# Altium footprint library 102-SOD.PcbLib: 3 footprints
Each footprint in its own frame and in the unit in brackets; x right, y up, seen from the top. Pads: shape width x height; smd on the part's side, far side on the other; paste and mask are expansions set on the pad; w line width, h text height; cw(c..) or ccw(c..) is an arc to the next point about the centre after c.
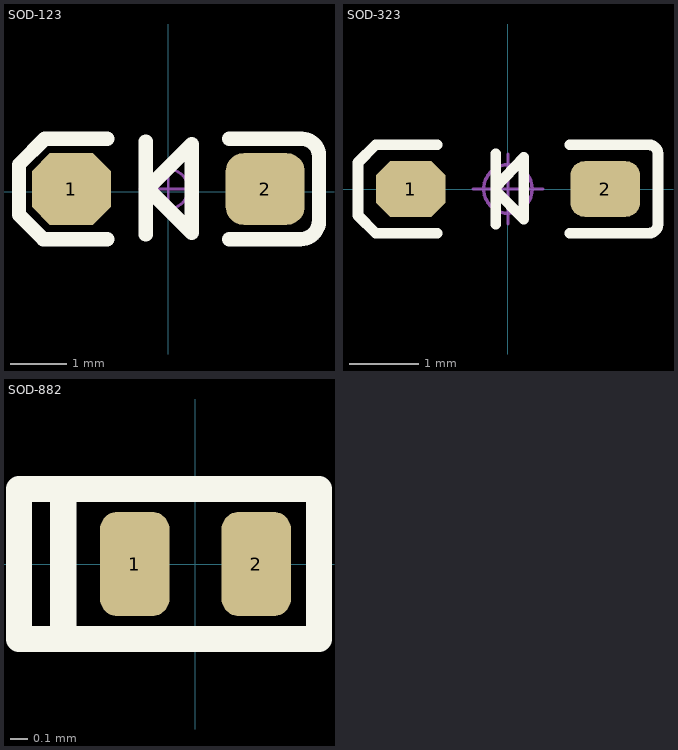
[diagram p0: the footprints below, top view; thin cyan lines are the x and y axes]

## SOD-123 [mil] "SOD-123/3.65mmx1.55mmx1.05mm"
height 41.34
pads (2):
  oct 55x50 smd: 1(-67.5,2)
  rrect50% 55x50 smd: 2(67.5,2)
Top Overlay:
  lines w10: -42.5,-33 -87,-33 -104,-16 -104,19 -86,37 -42.5,37 ; -15.6,-29.7 -15.6,35.1 ; -15.6,3.5 16.4,-28.5 16.4,33.2 -14,2.8 ; 42.5,-33 92,-33 ccw(c92,-20) 105,-20 105,25 ccw(c93,25) 93,37 42.5,37
Mechanical 15:
  circle w1.97: c0,2 r13.78
  lines w1.97: -19.68,2 19.68,2 ; 0,-17.68 0,21.68
3D body "SOD-123.step": height 50, standoff 1.97, extent -72.83,-29.49 72.84,33.5

## SOD-323 [mm] "SOD-323/1.8mmx1.3mmX0.9mm"
height 0.9
pads (2):
  oct 1x0.8 smd: 1(-1.4,0)
  rrect50% 1x0.8 smd: 2(1.4,0)
Top Overlay:
  lines w0.152: -1.016,-0.635 -1.905,-0.635 -2.159,-0.381 -2.159,0.381 -1.905,0.635 -1.016,0.635 ; -0.178,-0.508 -0.178,0.508 ; -0.178,-0.025 0.229,-0.432 0.229,0.457 -0.178,0.025 ; 0.889,-0.635 2.032,-0.635 ccw(c2.032,-0.508) 2.159,-0.508 2.159,0.508 ccw(c2.032,0.508) 2.032,0.635 0.889,0.635
Mechanical 15:
  circle w0.05: c0,0 r0.35
  lines w0.05: -0.5,0 0.5,0 ; 0,-0.5 0,0.5
3D body "SOD-323.step": height 1.2, standoff 0, extent -1.231,-0.65 1.281,0.65

## SOD-882 [mm]
height 0.5
pads (2):
  rrect50% 0.4x0.6 smd: 1(-0.35,0) 2(0.35,0)
Top Overlay:
  lines w0.152: -0.762,-0.381 -0.762,0.381 ; -1.016,-0.432 0.711,-0.432 0.711,0.432 -1.016,0.432 -1.016,-0.432
3D body "SOD-882.step": height 0.52, standoff 0, extent -0.5,-0.301 0.5,0.3